# EAGLE library part TPS715A33DRBR (library ti)
IC REG LDO 3.3V 80MA 8SON
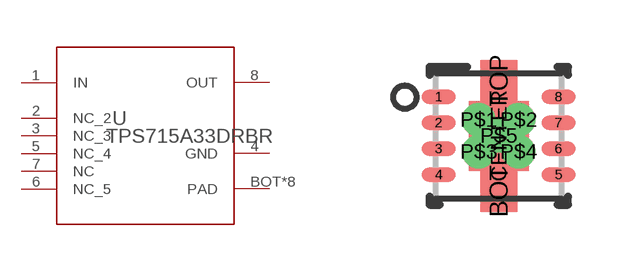
[diagram p0: symbol with the pads of DRB0008A; footprint DRB0008A]

Designator prefix U

## TPS715A33DRBR (ALTERNATEPARTNUMBER: TPS715A33DRBT; APPLICATION_BUILDNUMBER: *; COMPTYPE: IC; MANUFACTURER: Texas Instruments; MANUFACTURER_NAME: Texas Instruments; MANUFACTURER_PART_NUMBER: TPS715A33DRBR; MOUNTTYPE: SMT; PACKAGEREFERENCE: DRB0008A; PARTNUMBER: TPS715A33DRBR; PIN_COUNT: 9; REFDES: RefDes; ROHS: Y; TYPE: TYPE; VALUE: Value)  [DRB0008A]
1  IN  pwr
2  NC_2  pas
3  NC_3  pas
4  GND  pwr
5  NC_4  pas
6  NC_5  pas
7  NC  pas
8  OUT  pwr
BOT  PAD  pwr
CENTER  PAD  pwr
P$1  PAD  pwr
P$2  PAD  pwr
P$3  PAD  pwr
P$4  PAD  pwr
P$5  PAD  pwr
TOP  PAD  pwr

## Footprint DRB0008A (pad centres in mm)
smd 0.85 x 0.35: 1 -1.5,0.975; 2 -1.5,0.325; 3 -1.5,-0.325; 4 -1.5,-0.975; 5 1.5,-0.975; 6 1.5,-0.325; 7 1.5,0.325; 8 1.5,0.975
smd 0.93 x 1.025: BOT 0,-1.387; TOP 0,1.387
smd 1.5 x 1.75: CENTER 0,0
drill 0.33 pad 0.406: P$1 -0.5,0.4; P$2 0.5,0.4; P$3 -0.5,-0.4; P$4 0.5,-0.4; P$5 0,0